# EAGLE library part ISL9122AIRNZ-T (library ISL9122AIRNZ-T)
ULTRA-LOW IQ BUCK-BOOST REGULATO Source: Datasheet <https://www.renesas.com/jp/ja/www/doc/datasheet/isl9122a.pdf>
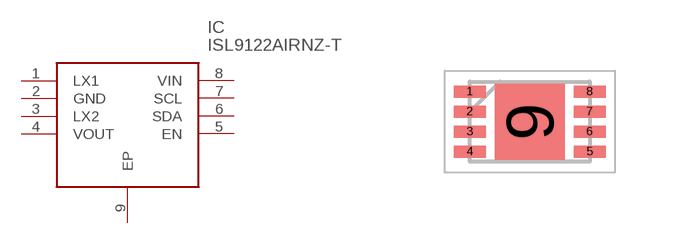
[diagram p0: symbol with the pads of SON50P300X200X100-9N; footprint SON50P300X200X100-9N]

Designator prefix IC

## ISL9122AIRNZ-T (Description: ULTRA-LOW IQ BUCK-BOOST REGULATO; Height: 1mm; Manufacturer_Name: Renesas Electronics; Manufacturer_Part_Number: ISL9122AIRNZ-T; Mouser_Part_Number: 968-ISL9122AIRNZ-T; Mouser_Price-Stock: https://www.mouser.co.uk/ProductDetail/Renesas-Intersil/ISL9122AIRNZ-T?qs=sPbYRqrBIVkRyMlACiSIsQ%3D%3D)  [SON50P300X200X100-9N]
1  LX1
2  GND
3  LX2
4  VOUT
5  EN
6  SDA
7  SCL
8  VIN
9  EP

## Footprint SON50P300X200X100-9N (pad centres in mm)
L8.2x3
smd 0.8 x 0.3: 1 -1.5,0.75; 2 -1.5,0.25; 3 -1.5,-0.25; 4 -1.5,-0.75; 5 1.5,-0.75; 6 1.5,-0.25; 7 1.5,0.25; 8 1.5,0.75
smd 1.75 x 1.9: 9 0,0